# EAGLE library part STM32F730Z8 (library pimoroni-ics)
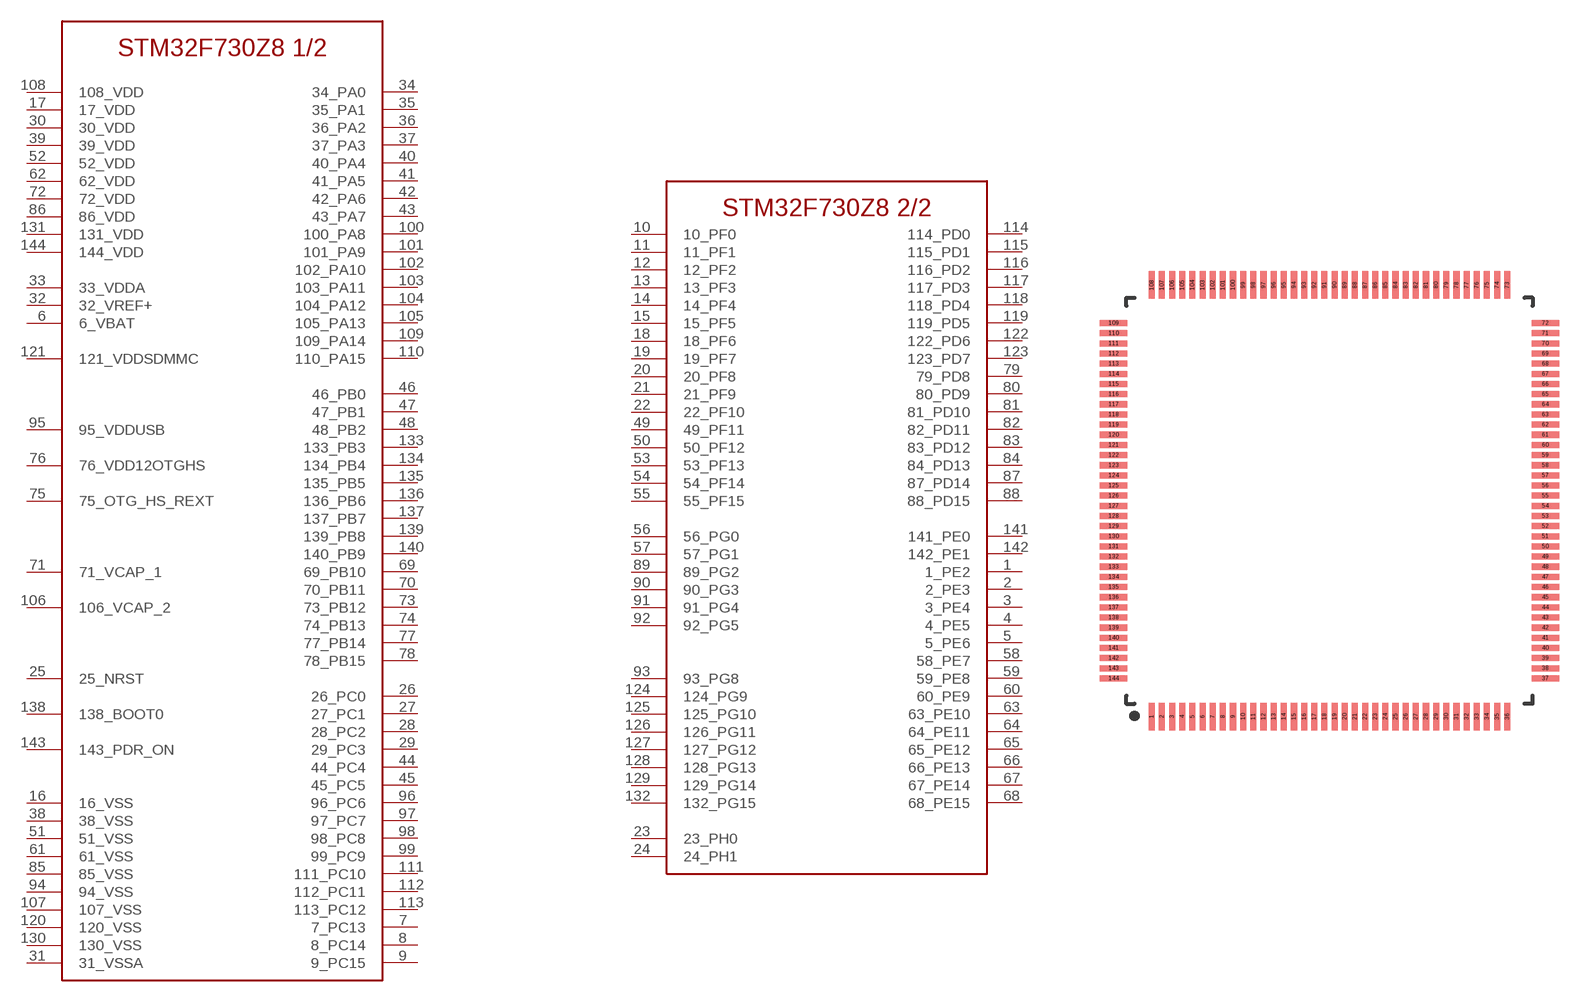
[diagram p114: symbol with the pads of QFP-144_20MM; footprint QFP-144_20MM]

Designator prefix U; gates G$1=STM32F730Z8_1 G$2=STM32F730Z8_2

## STM32F730Z8  [QFP-144_20MM]
1  G$2:1_PE2
2  G$2:2_PE3
3  G$2:3_PE4
4  G$2:4_PE5
5  G$2:5_PE6
6  G$1:6_VBAT
7  G$1:7_PC13
8  G$1:8_PC14
9  G$1:9_PC15
10  G$2:10_PF0
11  G$2:11_PF1
12  G$2:12_PF2
13  G$2:13_PF3
14  G$2:14_PF4
15  G$2:15_PF5
16  G$1:16_VSS
17  G$1:17_VDD
18  G$2:18_PF6
19  G$2:19_PF7
20  G$2:20_PF8
21  G$2:21_PF9
22  G$2:22_PF10
23  G$2:23_PH0
24  G$2:24_PH1
25  G$1:25_NRST
26  G$1:26_PC0
27  G$1:27_PC1
28  G$1:28_PC2
29  G$1:29_PC3
30  G$1:30_VDD
31  G$1:31_VSSA
32  G$1:32_VREF+
33  G$1:33_VDDA
34  G$1:34_PA0
35  G$1:35_PA1
36  G$1:36_PA2
37  G$1:37_PA3
38  G$1:38_VSS
39  G$1:39_VDD
40  G$1:40_PA4
41  G$1:41_PA5
42  G$1:42_PA6
43  G$1:43_PA7
44  G$1:44_PC4
45  G$1:45_PC5
46  G$1:46_PB0
47  G$1:47_PB1
48  G$1:48_PB2
49  G$2:49_PF11
50  G$2:50_PF12
51  G$1:51_VSS
52  G$1:52_VDD
53  G$2:53_PF13
54  G$2:54_PF14
55  G$2:55_PF15
56  G$2:56_PG0
57  G$2:57_PG1
58  G$2:58_PE7
59  G$2:59_PE8
60  G$2:60_PE9
61  G$1:61_VSS
62  G$1:62_VDD
63  G$2:63_PE10
64  G$2:64_PE11
65  G$2:65_PE12
66  G$2:66_PE13
67  G$2:67_PE14
68  G$2:68_PE15
69  G$1:69_PB10
70  G$1:70_PB11
71  G$1:71_VCAP_1
72  G$1:72_VDD
73  G$1:73_PB12
74  G$1:74_PB13
75  G$1:75_OTG_HS_REXT
76  G$1:76_VDD12OTGHS
77  G$1:77_PB14
78  G$1:78_PB15
79  G$2:79_PD8
80  G$2:80_PD9
81  G$2:81_PD10
82  G$2:82_PD11
83  G$2:83_PD12
84  G$2:84_PD13
85  G$1:85_VSS
86  G$1:86_VDD
87  G$2:87_PD14
88  G$2:88_PD15
89  G$2:89_PG2
90  G$2:90_PG3
91  G$2:91_PG4
92  G$2:92_PG5
93  G$2:93_PG8
94  G$1:94_VSS
95  G$1:95_VDDUSB
96  G$1:96_PC6
97  G$1:97_PC7
98  G$1:98_PC8
99  G$1:99_PC9
100  G$1:100_PA8
101  G$1:101_PA9
102  G$1:102_PA10
103  G$1:103_PA11
104  G$1:104_PA12
105  G$1:105_PA13
106  G$1:106_VCAP_2
107  G$1:107_VSS
108  G$1:108_VDD
109  G$1:109_PA14
110  G$1:110_PA15
111  G$1:111_PC10
112  G$1:112_PC11
113  G$1:113_PC12
114  G$2:114_PD0
115  G$2:115_PD1
116  G$2:116_PD2
117  G$2:117_PD3
118  G$2:118_PD4
119  G$2:119_PD5
120  G$1:120_VSS
121  G$1:121_VDDSDMMC
122  G$2:122_PD6
123  G$2:123_PD7
124  G$2:124_PG9
125  G$2:125_PG10
126  G$2:126_PG11
127  G$2:127_PG12
128  G$2:128_PG13
129  G$2:129_PG14
130  G$1:130_VSS
131  G$1:131_VDD
132  G$2:132_PG15
133  G$1:133_PB3
134  G$1:134_PB4
135  G$1:135_PB5
136  G$1:136_PB6
137  G$1:137_PB7
138  G$1:138_BOOT0
139  G$1:139_PB8
140  G$1:140_PB9
141  G$2:141_PE0
142  G$2:142_PE1
143  G$1:143_PDR_ON
144  G$1:144_VDD

## Footprint QFP-144_20MM (pad centres in mm)
smd 0.3 x 1.35: 1 -8.75,-10.625; 2 -8.25,-10.625; 3 -7.75,-10.625; 4 -7.25,-10.625; 5 -6.75,-10.625; 6 -6.25,-10.625; 7 -5.75,-10.625; 8 -5.25,-10.625; 9 -4.75,-10.625; 10 -4.25,-10.625; 11 -3.75,-10.625; 12 -3.25,-10.625; 13 -2.75,-10.625; 14 -2.25,-10.625; 15 -1.75,-10.625; 16 -1.25,-10.625; 17 -0.75,-10.625; 18 -0.25,-10.625; 19 0.25,-10.625; 20 0.75,-10.625; 21 1.25,-10.625; 22 1.75,-10.625; 23 2.25,-10.625; 24 2.75,-10.625; 25 3.25,-10.625; 26 3.75,-10.625; 27 4.25,-10.625; 28 4.75,-10.625; 29 5.25,-10.625; 30 5.75,-10.625; 31 6.25,-10.625; 32 6.75,-10.625; 33 7.25,-10.625; 34 7.75,-10.625; 35 8.25,-10.625; 36 8.75,-10.625; 73 8.75,10.625; 74 8.25,10.625; 75 7.75,10.625; 76 7.25,10.625; 77 6.75,10.625; 78 6.25,10.625; 79 5.75,10.625; 80 5.25,10.625; 81 4.75,10.625; 82 4.25,10.625; 83 3.75,10.625; 84 3.25,10.625; 85 2.75,10.625; 86 2.25,10.625; 87 1.75,10.625; 88 1.25,10.625; 89 0.75,10.625; 90 0.25,10.625; 91 -0.25,10.625; 92 -0.75,10.625; 93 -1.25,10.625; 94 -1.75,10.625; 95 -2.25,10.625; 96 -2.75,10.625; 97 -3.25,10.625; 98 -3.75,10.625; 99 -4.25,10.625; 100 -4.75,10.625; 101 -5.25,10.625; 102 -5.75,10.625; 103 -6.25,10.625; 104 -6.75,10.625; 105 -7.25,10.625; 106 -7.75,10.625; 107 -8.25,10.625; 108 -8.75,10.625
smd 1.35 x 0.3: 37 10.625,-8.75; 38 10.625,-8.25; 39 10.625,-7.75; 40 10.625,-7.25; 41 10.625,-6.75; 42 10.625,-6.25; 43 10.625,-5.75; 44 10.625,-5.25; 45 10.625,-4.75; 46 10.625,-4.25; 47 10.625,-3.75; 48 10.625,-3.25; 49 10.625,-2.75; 50 10.625,-2.25; 51 10.625,-1.75; 52 10.625,-1.25; 53 10.625,-0.75; 54 10.625,-0.25; 55 10.625,0.25; 56 10.625,0.75; 57 10.625,1.25; 58 10.625,1.75; 59 10.625,2.25; 60 10.625,2.75; 61 10.625,3.25; 62 10.625,3.75; 63 10.625,4.25; 64 10.625,4.75; 65 10.625,5.25; 66 10.625,5.75; 67 10.625,6.25; 68 10.625,6.75; 69 10.625,7.25; 70 10.625,7.75; 71 10.625,8.25; 72 10.625,8.75; 109 -10.625,8.75; 110 -10.625,8.25; 111 -10.625,7.75; 112 -10.625,7.25; 113 -10.625,6.75; 114 -10.625,6.25; 115 -10.625,5.75; 116 -10.625,5.25; 117 -10.625,4.75; 118 -10.625,4.25; 119 -10.625,3.75; 120 -10.625,3.25; 121 -10.625,2.75; 122 -10.625,2.25; 123 -10.625,1.75; 124 -10.625,1.25; 125 -10.625,0.75; 126 -10.625,0.25; 127 -10.625,-0.25; 128 -10.625,-0.75; 129 -10.625,-1.25; 130 -10.625,-1.75; 131 -10.625,-2.25; 132 -10.625,-2.75; 133 -10.625,-3.25; 134 -10.625,-3.75; 135 -10.625,-4.25; 136 -10.625,-4.75; 137 -10.625,-5.25; 138 -10.625,-5.75; 139 -10.625,-6.25; 140 -10.625,-6.75; 141 -10.625,-7.25; 142 -10.625,-7.75; 143 -10.625,-8.25; 144 -10.625,-8.75